# EAGLE library part SN74LVC1T45DBVT (library SN74LVC1T45DBVT)
Check prices <https://pricing.snapeda.com/parts/SN74LVC1T45DBVT/Texas%20Instruments/view-part?ref=eda>
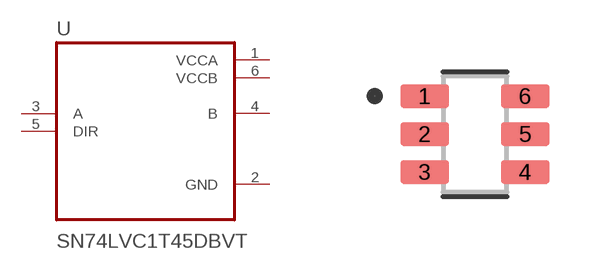
[diagram p0: symbol with the pads of SOT95P280X145-6N; footprint SOT95P280X145-6N]

Designator prefix U

## SN74LVC1T45DBVT (Availability: Good; Description: Single-Bit Dual-Supply Bus Transceiver with Configurable Voltage-Level Shifting and 3-State Outputs 6-SOT-23 -40 to 85; MF: Texas Instruments; MP: SN74LVC1T45DBVT; Package: SOT-23-6 Texas Instruments; Price: None; Purchase-URL: https://pricing.snapeda.com/search/part/SN74LVC1T45DBVT/?ref=eda)  [SOT95P280X145-6N]
1  VCCA  pwr
2  GND  pwr
3  A  in
4  B  out
5  DIR  in
6  VCCB  pwr

## Footprint SOT95P280X145-6N (pad centres in mm)
smd 1.21 x 0.58: 1 -1.255,0.95; 2 -1.255,0; 3 -1.255,-0.95; 4 1.255,-0.95; 5 1.255,0; 6 1.255,0.95